# Altium footprint library 1935161.PcbLib: 1 footprints
Each footprint in its own frame and in the unit in brackets; x right, y up, seen from the top. Pads: shape width x height; smd on the part's side, far side on the other; paste and mask are expansions set on the pad; w line width, h text height; cw(c..) or ccw(c..) is an arc to the next point about the centre after c.
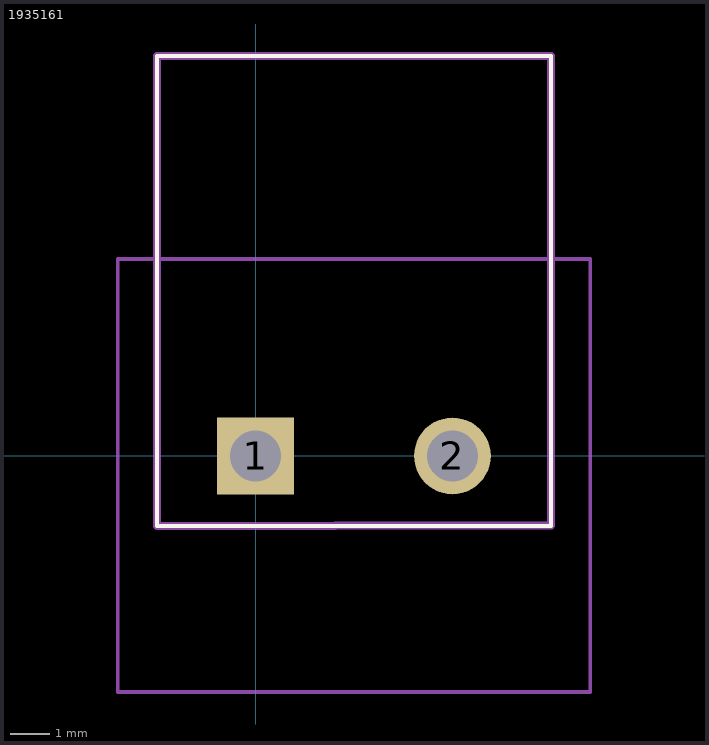
[diagram p0: the footprint, top view; thin cyan lines are the x and y axes]

## 1935161 [mm]
pads (2):
  rect 1.95x1.95 hole 1.3: 1(0,0)
  round 1.95 hole 1.3: 2(5,0)
Top Overlay:
  lines w0.1: -2.5,-1.778 -2.5,10.16 7.5,10.16 7.5,-1.778 -2.5,-1.778
Mechanical 15:
  lines w0.2: -2.5,-1.778 -1.397,-1.778 -0.381,-1.778 2.025,-1.778 2.032,-1.771 4.064,-1.771 5.08,-1.771 6.223,-1.771 7.246,-1.771 7.5,-1.771 7.5,10.16 -2.5,10.16 -2.5,-1.778
Mechanical 20:
  lines w0.1: -3.5,-6 -3.5,5 8.5,5 8.5,-6 -3.5,-6
3D body "tb2.step": height 14.61, standoff -3.49, extent -3.46,-2.032 8.54,28.241